# Altium footprint library Coil MPS.PcbLib: 18 footprints (part 1 of 2)
Each footprint in its own frame and in the unit in brackets; x right, y up, seen from the top. Pads: shape width x height; smd on the part's side, far side on the other; paste and mask are expansions set on the pad; w line width, h text height; cw(c..) or ccw(c..) is an arc to the next point about the centre after c.
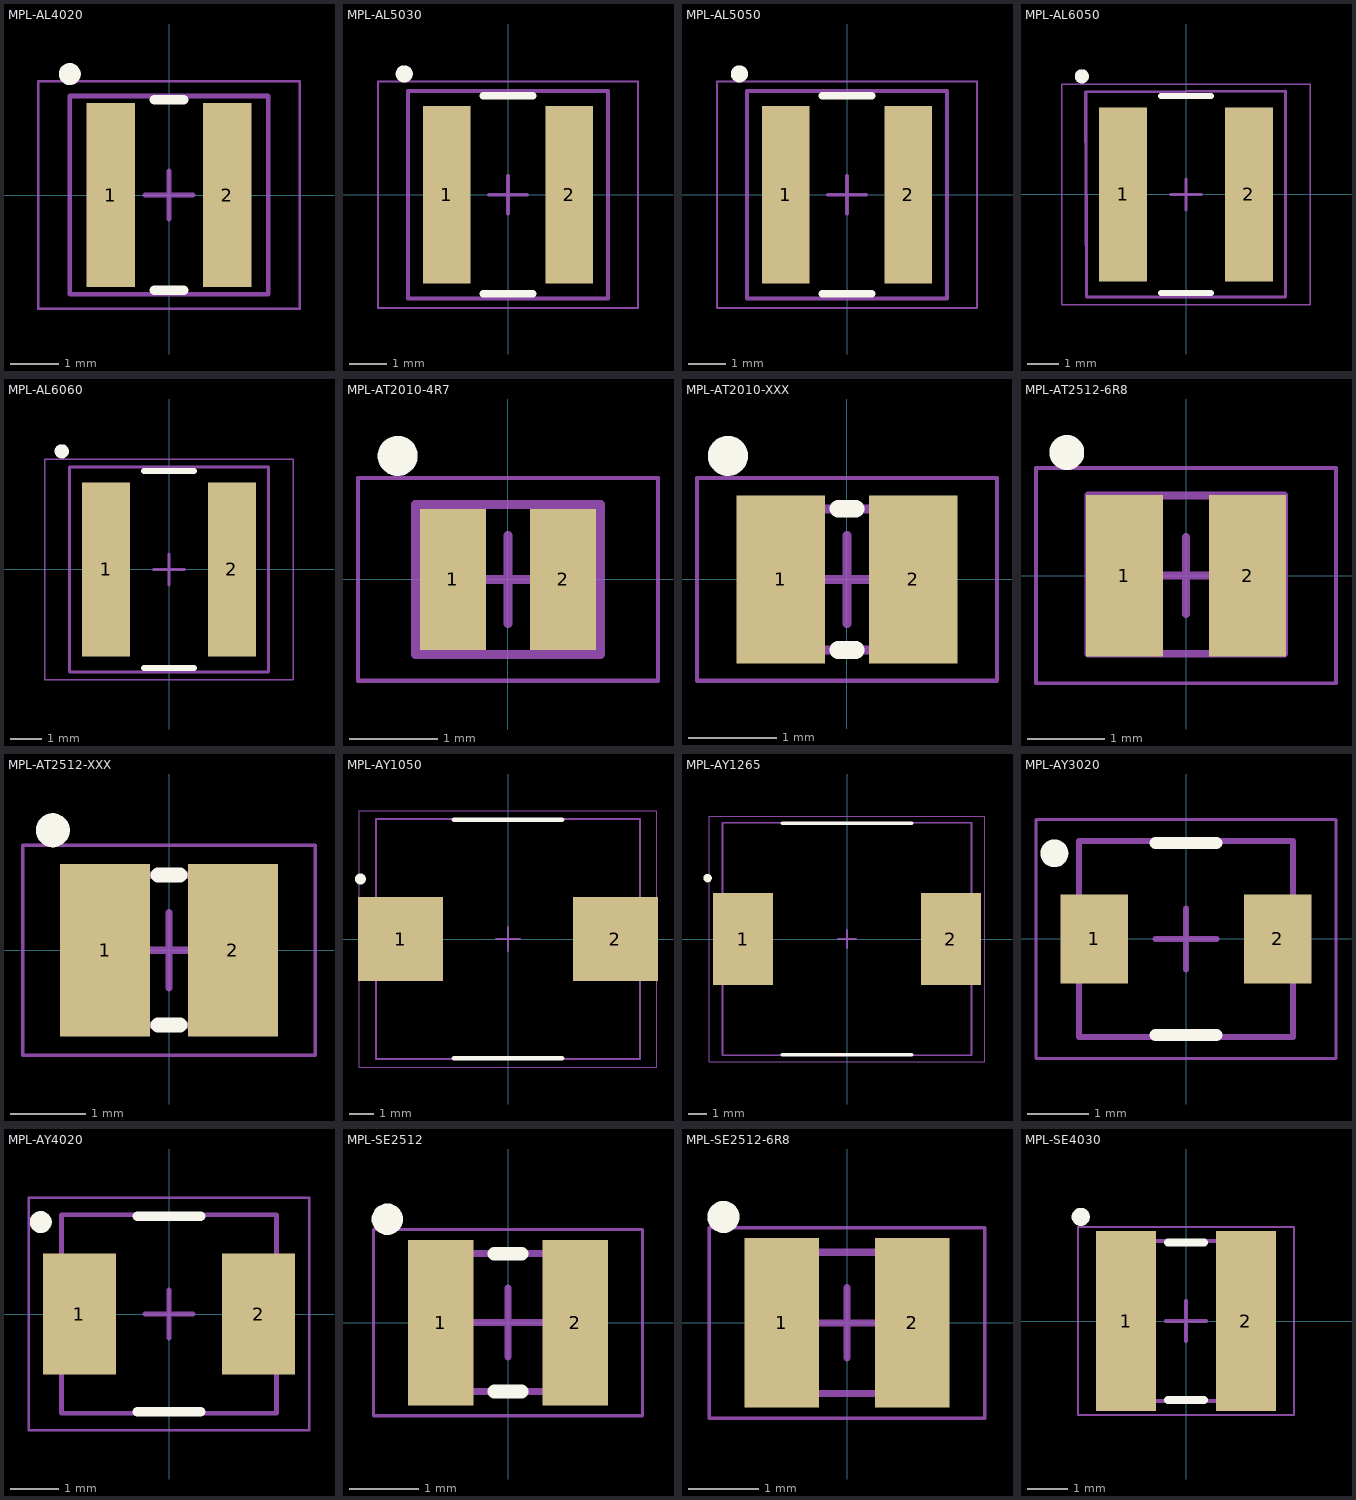
[diagram p0: the footprints below, top view; thin cyan lines are the x and y axes]

## MPL-AL4020 [mm] "Chip Inductor, 2-Leads, Body 4.10x4.10mm, IPC Medium Density"
height 1.9
pads (2):
  rect 1x3.8 smd: 1(-1.2,0) 2(1.2,0)
Top Overlay:
  circle w0.254: c-2.05,2.5 r0.1
  lines w0.2: -0.3,-1.97 0.3,-1.97 ; -0.3,1.97 0.3,1.97
Mechanical 13:
  lines w0.1: -2.05,-2.05 -2.05,2.05 2.05,2.05 2.05,-2.05 -2.05,-2.05
Mechanical 15:
  lines w0.05: -2.7,-2.35 -2.7,2.35 2.7,2.35 2.7,-2.35 -2.7,-2.35
  lines w0.1: -0.5,0 0.5,0 ; 0,-0.5 0,0.5
3D body "AL4020.STEP": height 1.9, standoff 0, extent -2.05,-2.05 2.05,2.05

## MPL-AL5030 [mm] "Chip Inductor, 2-Leads, Body 5.50x5.30mm, IPC Medium Density"
height 2.9
pads (2):
  rect 1.25x4.7 smd: 1(-1.625,0) 2(1.625,0)
Top Overlay:
  circle w0.254: c-2.75,3.2 r0.1
  lines w0.2: -0.65,-2.62 0.65,-2.62 ; -0.65,2.62 0.65,2.62
Mechanical 13:
  lines w0.1: -2.65,-2.75 -2.65,2.75 2.65,2.75 2.65,-2.75 -2.65,-2.75
Mechanical 15:
  lines w0.05: -3.45,-3 3.45,-3 3.45,3 -3.45,3 -3.45,-3
  lines w0.1: -0.5,0 0.5,0 ; 0,-0.5 0,0.5
3D body "AL5030.STEP": height 2.9, standoff 0, extent -2.65,-2.75 2.65,2.75

## MPL-AL5050 [mm] "Chip Inductor, 2-Leads, Body 5.50x5.30mm, IPC Medium Density"
height 4.8
pads (2):
  rect 1.25x4.7 smd: 1(-1.625,0) 2(1.625,0)
Top Overlay:
  circle w0.254: c-2.85,3.2 r0.1
  lines w0.2: -0.65,-2.62 0.65,-2.62 ; -0.65,2.62 0.65,2.62
Mechanical 13:
  lines w0.1: -2.65,-2.75 -2.65,2.75 2.65,2.75 2.65,-2.75 -2.65,-2.75
Mechanical 15:
  lines w0.05: -3.45,-3 -3.45,3 3.45,3 3.45,-3 -3.45,-3
  lines w0.1: -0.5,0 0.5,0 ; 0,-0.5 0,0.5
3D body "AL5050.STEP": height 4.8, standoff 0, extent -2.65,-2.75 2.65,2.75

## MPL-AL6050 [mm] "Chip Inductor, 2-Leads, Body 6.60x6.40mm, IPC Medium Density"
height 4.8
pads (2):
  rect 1.55x5.6 smd: 1(-2.025,0) 2(2.025,0)
Top Overlay:
  circle w0.254: c-3.35,3.8 r0.1
  lines w0.2: -0.8,-3.17 0.8,-3.17 ; -0.8,3.17 0.8,3.17
Mechanical 13:
  lines w0.1: -3.226,3.3 -3.2,-3.3 3.2,-3.3 3.2,3.3 ; -3.2,3.3 3.2,3.327
Mechanical 15:
  lines w0.05: -4,-3.55 -4,3.55 4,3.55 4,-3.55 -4,-3.55
  lines w0.1: -0.5,0 0.5,0 ; 0,-0.5 0,0.5
3D body "AL6050 D5.20.STEP": height 4.9, standoff 0.1, extent -3.2,-3.3 3.2,3.3

## MPL-AL6060 [mm] "Chip Inductor, 2-Leads, Body 6.60x6.40mm, IPC Medium Density"
height 5.8
pads (2):
  rect 1.55x5.6 smd: 1(-2.025,0) 2(2.025,0)
Top Overlay:
  circle w0.254: c-3.45,3.8 r0.1
  lines w0.2: -0.8,-3.17 0.8,-3.17 ; -0.8,3.17 0.8,3.17
Mechanical 13:
  lines w0.1: -3.2,-3.3 -3.2,3.3 3.2,3.3 3.2,-3.3 -3.2,-3.3
Mechanical 15:
  lines w0.05: -4,-3.55 -4,3.55 4,3.55 4,-3.55 -4,-3.55
  lines w0.1: -0.5,0 0.5,0 ; 0,-0.5 0,0.5
3D body "AL6050 D5.30.STEP": height 4.8, standoff 0, extent -3.2,-3.3 3.2,3.3

## MPL-AT2010-4R7 [mm] "Chip Inductor, 2-Leads, Body 2.00x1.60mm, IPC Medium Density"
height 1
pads (2):
  rect 0.75x1.6 smd: 1(-0.625,0) 2(0.625,0)
Top Overlay:
  circle w0.254: c-1.25,1.4 r0.1
Mechanical 13:
  lines w0.1: -1.05,-0.85 -1.05,0.85 1.05,0.85 1.05,-0.85 -1.05,-0.85
Mechanical 15:
  lines w0.05: -1.7,-1.15 -1.7,1.15 1.7,1.15 1.7,-1.15 -1.7,-1.15
  lines w0.1: -0.5,0 0.5,0 ; 0,-0.5 0,0.5
3D body: height 1, standoff 0, extent -0.4,-0.85 0.4,0.85

## MPL-AT2010-XXX [mm] "Chip Inductor, 2-Leads, Body 2.00x1.60mm, IPC Medium Density"
height 1
pads (2):
  rect 1x1.9 smd: 1(-0.75,0) 2(0.75,0)
Top Overlay:
  circle w0.254: c-1.35,1.4 r0.1
  lines w0.2: -0.1,-0.8 0.1,-0.8 ; -0.1,0.8 0.1,0.8
Mechanical 13:
  lines w0.1: -1.016,-0.8 -1.016,0.8 1.031,0.8 1.031,-0.8 -1.016,-0.8
Mechanical 15:
  lines w0.05: -1.7,-1.15 -1.7,1.15 1.7,1.15 1.7,-1.15 -1.7,-1.15
  lines w0.1: -0.5,0 0.5,0 ; 0,-0.5 0,0.5
3D body "MPL-AT2010.STEP": height 1, standoff 0, extent -1.019,-0.8 1.031,0.8

## MPL-AT2512-6R8 [mm] "Chip Inductor, 2-Leads, Body 2.50x2.00mm, IPC Medium Density"
height 1.2
pads (2):
  rect 1x2.1 smd: 1(-0.8,0) 2(0.8,0)
Top Overlay:
  circle w0.254: c-1.55,1.6 r0.1
Mechanical 13:
  lines w0.1: -1.27,-1.016 -1.27,1.041 1.277,1.041 1.277,-1.016 -1.27,-1.016
Mechanical 15:
  lines w0.05: -1.95,-1.4 -1.95,1.4 1.95,1.4 1.95,-1.4 -1.95,-1.4
  lines w0.1: -0.5,0 0.5,0 ; 0,-0.5 0,0.5
3D body "AT2512.STEP": height 1.2, standoff 0, extent -1.25,-1 1.25,1

## MPL-AT2512-XXX [mm] "Chip Inductor, 2-Leads, Body 2.50x2.00mm, IPC Medium Density"
height 1.2
pads (2):
  rect 1.2x2.3 smd: 1(-0.85,0) 2(0.85,0)
Top Overlay:
  circle w0.254: c-1.55,1.6 r0.1
  lines w0.2: -0.15,-1 0.15,-1 ; -0.15,1 0.15,1
Mechanical 13:
  lines w0.1: -1.275,-1 -1.275,1 ; -1.274,-1 1.277,-1 1.277,1 -1.274,1
Mechanical 15:
  lines w0.05: -1.95,-1.4 1.95,-1.4 1.95,1.4 -1.95,1.4 -1.95,-1.4
  lines w0.1: -0.5,0 0.5,0 ; 0,-0.5 0,0.5
3D body "AT2512.STEP": height 1.2, standoff 0, extent -1.25,-1 1.25,1

## MPL-AY1050 [mm] "Chip Inductor, 2-Leads, Body 11.00x10.00mm, IPC Medium Density"
height 4.8
pads (2):
  rect 3.55x3.5 smd: 1(-4.475,0) 2(4.475,0)
Top Overlay:
  circle w0.254: c-6.15,2.5 r0.1
  lines w0.2: -2.25,-4.97 2.25,-4.97 ; -2.25,4.97 2.25,4.97
Mechanical 13:
  lines w0.1: -5.5,-5 5.5,-5 5.5,5 -5.5,5 -5.5,-5
Mechanical 15:
  lines w0.05: -6.2,-5.35 6.2,-5.35 6.2,5.35 -6.2,5.35 -6.2,-5.35
  lines w0.1: -0.5,0 0.5,0 ; 0,-0.5 0,0.5
3D body "AY1050.STEP": height 4.8, standoff 0, extent -5.5,-5 5.5,5

## MPL-AY1265 [mm] "Chip Inductor, 2-Leads, Body 13.50x12.60mm, IPC Medium Density"
height 6.2
pads (2):
  rect 3.25x5 smd: 1(-5.625,0) 2(5.625,0)
Top Overlay:
  circle w0.254: c-7.55,3.3 r0.1
  lines w0.2: -3.5,-6.27 3.5,-6.27 ; -3.5,6.27 3.5,6.27
Mechanical 13:
  lines w0.1: -6.75,-6.3 6.75,-6.3 6.75,6.3 -6.75,6.3 -6.75,-6.3
Mechanical 15:
  lines w0.05: -7.45,-6.65 7.45,-6.65 7.45,6.65 -7.45,6.65 -7.45,-6.65
  lines w0.1: -0.5,0 0.5,0 ; 0,-0.5 0,0.5
3D body "AY1265.STEP": height 6.2, standoff -0.05, extent -6.8,-6.3 6.8,6.3

## MPL-AY3020 [mm] "Chip Inductor, 2-Leads, Body 3.50x3.20mm, IPC Medium Density"
height 1.8
pads (2):
  rect 1.1x1.45 smd: 1(-1.5,0) 2(1.5,0)
Top Overlay:
  circle w0.254: c-2.15,1.4 r0.1
  lines w0.2: -0.5,-1.57 0.5,-1.57 ; -0.5,1.57 0.5,1.57
Mechanical 13:
  lines w0.1: -1.75,-1.6 1.75,-1.6 1.75,1.6 -1.75,1.6 -1.75,-1.6
Mechanical 15:
  lines w0.05: -2.45,-1.95 2.45,-1.95 2.45,1.95 -2.45,1.95 -2.45,-1.95
  lines w0.1: -0.5,0 0.5,0 ; 0,-0.5 0,0.5
3D body "AY3020.STEP": height 1.8, standoff 0, extent -1.75,-1.6 1.75,1.6

## MPL-AY4020 [mm] "Chip Inductor, 2-Leads, Body 4.45x4.10mm, IPC Medium Density"
height 1.8
pads (2):
  rect 1.5x2.5 smd: 1(-1.85,0) 2(1.85,0)
Top Overlay:
  circle w0.254: c-2.65,1.9 r0.1
  lines w0.2: -0.65,-2.02 0.65,-2.02 ; -0.65,2.02 0.65,2.02
Mechanical 13:
  lines w0.1: -2.225,-2.05 2.225,-2.05 2.225,2.05 -2.225,2.05 -2.225,-2.05
Mechanical 15:
  lines w0.05: -2.9,-2.4 2.9,-2.4 2.9,2.4 -2.9,2.4 -2.9,-2.4
  lines w0.1: -0.5,0 0.5,0 ; 0,-0.5 0,0.5
3D body "AY4020.STEP": height 1.8, standoff 0, extent -2.225,-2.05 2.225,2.05

## MPL-SE2512 [mm] "Chip Inductor, 2-Leads, Body 2.50x2.00mm, IPC Medium Density"
height 1
pads (2):
  rect 0.95x2.4 smd: 1(-0.975,0) 2(0.975,0)
Top Overlay:
  circle w0.254: c-1.75,1.5 r0.1
  lines w0.2: -0.2,-1 0.2,-1 ; -0.2,1 0.2,1
Mechanical 13:
  lines w0.1: -1.25,-1 1.25,-1 1.25,1 -1.25,1 -1.25,-1
Mechanical 15:
  lines w0.05: -1.95,-1.35 1.95,-1.35 1.95,1.35 -1.95,1.35 -1.95,-1.35
  lines w0.1: -0.5,0 0.5,0 ; 0,-0.5 0,0.5
3D body: height 1, standoff 0, extent -0.4,-1 0.4,1
3D body: height 1, standoff 0, extent -1.25,-1 -0.4,1
3D body: height 1, standoff 0, extent 0.4,-1 1.25,1

## MPL-SE2512-6R8 [mm] "Chip Inductor, 2-Leads, Body 2.50x2.00mm, IPC Medium Density"
height 1
pads (2):
  rect 1.05x2.4 smd: 1(-0.925,0) 2(0.925,0)
Top Overlay:
  circle w0.254: c-1.75,1.5 r0.1
Mechanical 13:
  lines w0.1: -1.25,-1 -1.25,1 1.25,1 1.25,-1 -1.25,-1
Mechanical 15:
  lines w0.05: -1.95,-1.35 -1.95,1.35 1.95,1.35 1.95,-1.35 -1.95,-1.35
  lines w0.1: -0.5,0 0.5,0 ; 0,-0.5 0,0.5
3D body: height 1, standoff 0, extent 0.4,-1 1.25,1
3D body: height 1, standoff 0, extent -1.25,-1 -0.4,1
3D body: height 1, standoff 0, extent -0.4,-1 0.4,1

## MPL-SE4030 [mm] "Chip Inductor, 2-Leads, Body 4.00x4.00mm, IPC Medium Density"
height 3
pads (2):
  rect 1.5x4.5 smd: 1(-1.5,0) 2(1.5,0)
Top Overlay:
  circle w0.254: c-2.632,2.608 r0.1
  lines w0.2: -0.45,-1.97 0.45,-1.97 ; -0.45,1.97 0.45,1.97
Mechanical 13:
  lines w0.1: -2,-2 -2,2 2,2 2,-2 -2,-2
Mechanical 15:
  lines w0.05: -2.7,-2.35 -2.7,2.35 2.7,2.35 2.7,-2.35 -2.7,-2.35
  lines w0.1: -0.5,0 0.5,0 ; 0,-0.5 0,0.5
3D body "MPL-SE4030-xxx.step": height 3.05, standoff 0.05, extent -2,-2 2,2
3D body: height 1.5, standoff 0, extent -2,-2 -0.9,2
3D body: height 1.5, standoff 0, extent 0.9,-2 2,2